# EAGLE library part MOLEX_DUAL_STACKED_VHDCI (library molex_vhdci)
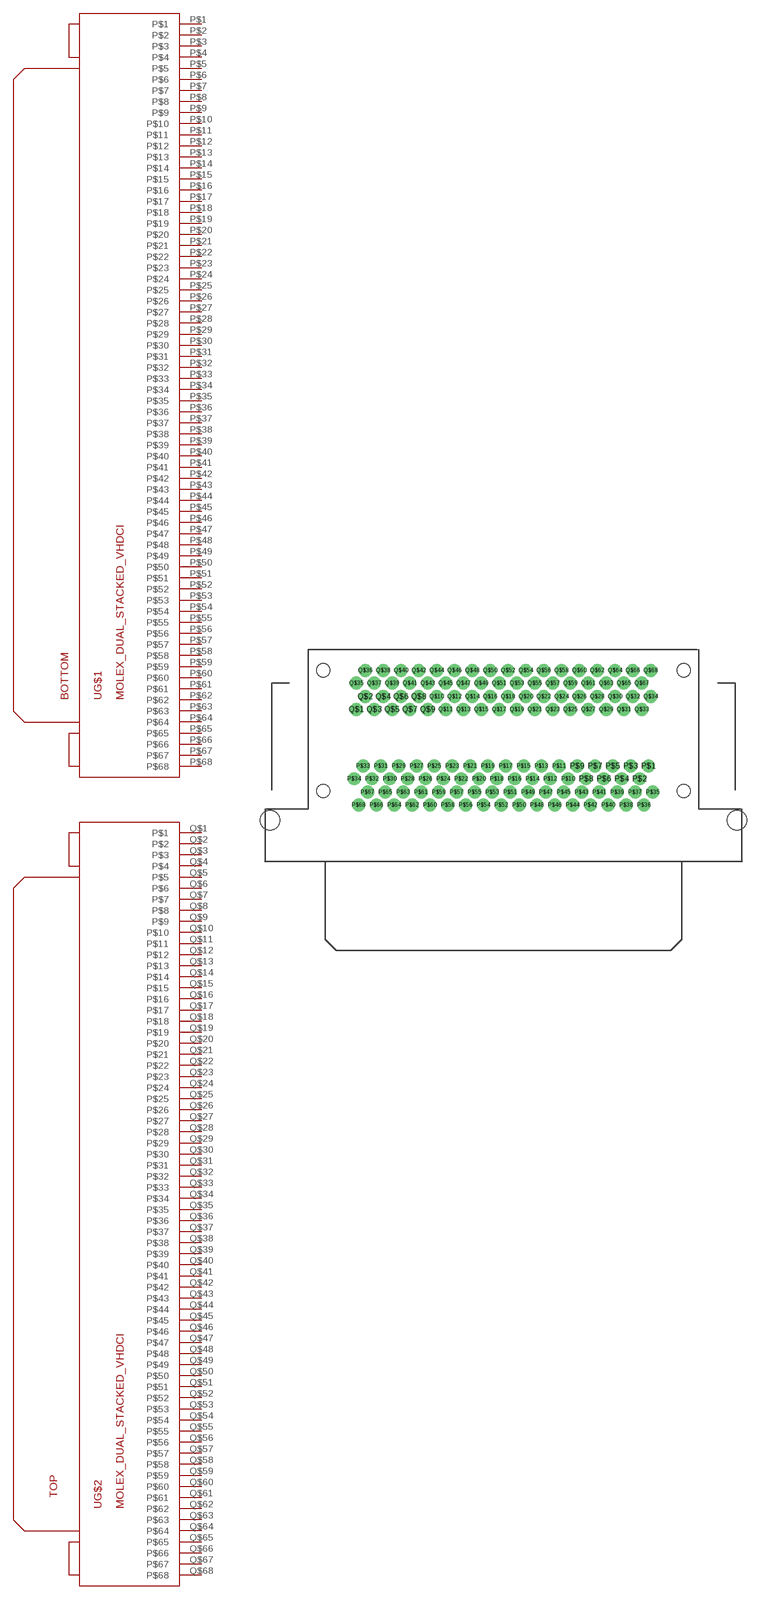
[diagram p0: symbol with the pads of MOLEX_743370911_SD_DUAL_STACKED_VHDCI; footprint MOLEX_743370911_SD_DUAL_STACKED_VHDCI]

Designator prefix -; gates G$1=MOLEX_DUAL_STACKED_VHDCI-BANK0 G$2=MOLEX_DUAL_STACKED_VHDCI-BANK1

## MOLEX_DUAL_STACKED_VHDCI  [MOLEX_743370911_SD_DUAL_STACKED_VHDCI]
P$1  G$1:P$1
P$2  G$1:P$2
P$3  G$1:P$3
P$4  G$1:P$4
P$5  G$1:P$5
P$6  G$1:P$6
P$7  G$1:P$7
P$8  G$1:P$8
P$9  G$1:P$9
P$10  G$1:P$10
P$11  G$1:P$11
P$12  G$1:P$12
P$13  G$1:P$13
P$14  G$1:P$14
P$15  G$1:P$15
P$16  G$1:P$16
P$17  G$1:P$17
P$18  G$1:P$18
P$19  G$1:P$19
P$20  G$1:P$20
P$21  G$1:P$21
P$22  G$1:P$22
P$23  G$1:P$23
P$24  G$1:P$24
P$25  G$1:P$25
P$26  G$1:P$26
P$27  G$1:P$27
P$28  G$1:P$28
P$29  G$1:P$29
P$30  G$1:P$30
P$31  G$1:P$31
P$32  G$1:P$32
P$33  G$1:P$33
P$34  G$1:P$34
P$35  G$1:P$35
P$36  G$1:P$36
P$37  G$1:P$37
P$38  G$1:P$38
P$39  G$1:P$39
P$40  G$1:P$40
P$41  G$1:P$41
P$42  G$1:P$42
P$43  G$1:P$43
P$44  G$1:P$44
P$45  G$1:P$45
P$46  G$1:P$46
P$47  G$1:P$47
P$48  G$1:P$48
P$49  G$1:P$49
P$50  G$1:P$50
P$51  G$1:P$51
P$52  G$1:P$52
P$53  G$1:P$53
P$54  G$1:P$54
P$55  G$1:P$55
P$56  G$1:P$56
P$57  G$1:P$57
P$58  G$1:P$58
P$59  G$1:P$59
P$60  G$1:P$60
P$61  G$1:P$61
P$62  G$1:P$62
P$63  G$1:P$63
P$64  G$1:P$64
P$65  G$1:P$65
P$66  G$1:P$66
P$67  G$1:P$67
P$68  G$1:P$68
Q$1  G$2:P$1
Q$2  G$2:P$2
Q$3  G$2:P$3
Q$4  G$2:P$4
Q$5  G$2:P$5
Q$6  G$2:P$6
Q$7  G$2:P$7
Q$8  G$2:P$8
Q$9  G$2:P$9
Q$10  G$2:P$10
Q$11  G$2:P$11
Q$12  G$2:P$12
Q$13  G$2:P$13
Q$14  G$2:P$14
Q$15  G$2:P$15
Q$16  G$2:P$16
Q$17  G$2:P$17
Q$18  G$2:P$18
Q$19  G$2:P$19
Q$20  G$2:P$20
Q$21  G$2:P$21
Q$22  G$2:P$22
Q$23  G$2:P$23
Q$24  G$2:P$24
Q$25  G$2:P$25
Q$26  G$2:P$26
Q$27  G$2:P$27
Q$28  G$2:P$28
Q$29  G$2:P$29
Q$30  G$2:P$30
Q$31  G$2:P$31
Q$32  G$2:P$32
Q$33  G$2:P$33
Q$34  G$2:P$34
Q$35  G$2:P$35
Q$36  G$2:P$36
Q$37  G$2:P$37
Q$38  G$2:P$38
Q$39  G$2:P$39
Q$40  G$2:P$40
Q$41  G$2:P$41
Q$42  G$2:P$42
Q$43  G$2:P$43
Q$44  G$2:P$44
Q$45  G$2:P$45
Q$46  G$2:P$46
Q$47  G$2:P$47
Q$48  G$2:P$48
Q$49  G$2:P$49
Q$50  G$2:P$50
Q$51  G$2:P$51
Q$52  G$2:P$52
Q$53  G$2:P$53
Q$54  G$2:P$54
Q$55  G$2:P$55
Q$56  G$2:P$56
Q$57  G$2:P$57
Q$58  G$2:P$58
Q$59  G$2:P$59
Q$60  G$2:P$60
Q$61  G$2:P$61
Q$62  G$2:P$62
Q$63  G$2:P$63
Q$64  G$2:P$64
Q$65  G$2:P$65
Q$66  G$2:P$66
Q$67  G$2:P$67
Q$68  G$2:P$68

## Footprint MOLEX_743370911_SD_DUAL_STACKED_VHDCI (pad centres in mm)
drill 0.65: P$1 13.005,8.55; P$2 12.205,7.4; P$3 11.405,8.55; P$4 10.605,7.4; P$5 9.805,8.55; P$6 9.005,7.4; P$7 8.205,8.55; P$8 7.405,7.4; P$9 6.605,8.55; P$10 5.805,7.4; P$11 5.005,8.55; P$12 4.205,7.4; P$13 3.405,8.55; P$14 2.605,7.4; P$15 1.805,8.55; P$16 1.005,7.4; P$17 0.205,8.55; P$18 -0.595,7.4; P$19 -1.395,8.55; P$20 -2.195,7.4; P$21 -2.995,8.55; P$22 -3.795,7.4; P$23 -4.595,8.55; P$24 -5.395,7.4; P$25 -6.195,8.55; P$26 -6.995,7.4; P$27 -7.795,8.55; P$28 -8.595,7.4; P$29 -9.395,8.55; P$30 -10.195,7.4; P$31 -10.995,8.55; P$32 -11.795,7.4; P$33 -12.595,8.55; P$34 -13.395,7.4; P$35 13.405,6.2; P$36 12.605,5.05; P$37 11.805,6.2; P$38 11.005,5.05; P$39 10.205,6.2; P$40 9.405,5.05; P$41 8.605,6.2; P$42 7.805,5.05; P$43 7.005,6.2; P$44 6.205,5.05; P$45 5.405,6.2; P$46 4.605,5.05; P$47 3.805,6.2; P$48 3.005,5.05; P$49 2.205,6.2; P$50 1.405,5.05; P$51 0.605,6.2; P$52 -0.195,5.05; P$53 -0.995,6.2; P$54 -1.795,5.05; P$55 -2.595,6.2; P$56 -3.395,5.05; P$57 -4.195,6.2; P$58 -4.995,5.05; P$59 -5.795,6.2; P$60 -6.595,5.05; P$61 -7.395,6.2; P$62 -8.195,5.05; P$63 -8.995,6.2; P$64 -9.795,5.05; P$65 -10.595,6.2; P$66 -11.395,5.05; P$67 -12.195,6.2; P$68 -12.995,5.05; Q$1 -13.195,13.63; Q$2 -12.395,14.78; Q$3 -11.595,13.63; Q$4 -10.795,14.78; Q$5 -9.995,13.63; Q$6 -9.195,14.78; Q$7 -8.395,13.63; Q$8 -7.595,14.78; Q$9 -6.795,13.63; Q$10 -5.995,14.78; Q$11 -5.195,13.63; Q$12 -4.395,14.78; Q$13 -3.595,13.63; Q$14 -2.795,14.78; Q$15 -1.995,13.63; Q$16 -1.195,14.78; Q$17 -0.395,13.63; Q$18 0.405,14.78; Q$19 1.205,13.63; Q$20 2.005,14.78; Q$21 2.805,13.63; Q$22 3.605,14.78; Q$23 4.405,13.63; Q$24 5.205,14.78; Q$25 6.005,13.63; Q$26 6.805,14.78; Q$27 7.605,13.63; Q$28 8.405,14.78; Q$29 9.205,13.63; Q$30 10.005,14.78; Q$31 10.805,13.63; Q$32 11.605,14.78; Q$33 12.405,13.63; Q$34 13.205,14.78; Q$35 -13.195,15.98; Q$36 -12.395,17.13; Q$37 -11.595,15.98; Q$38 -10.795,17.13; Q$39 -9.995,15.98; Q$40 -9.195,17.13; Q$41 -8.395,15.98; Q$42 -7.595,17.13; Q$43 -6.795,15.98; Q$44 -5.995,17.13; Q$45 -5.195,15.98; Q$46 -4.395,17.13; Q$47 -3.595,15.98; Q$48 -2.795,17.13; Q$49 -1.995,15.98; Q$50 -1.195,17.13; Q$51 -0.395,15.98; Q$52 0.405,17.13; Q$53 1.205,15.98; Q$54 2.005,17.13; Q$55 2.805,15.98; Q$56 3.605,17.13; Q$57 4.405,15.98; Q$58 5.205,17.13; Q$59 6.005,15.98; Q$60 6.805,17.13; Q$61 7.605,15.98; Q$62 8.405,17.13; Q$63 9.205,15.98; Q$64 10.005,17.13; Q$65 10.805,15.98; Q$66 11.605,17.13; Q$67 12.405,15.98; Q$68 13.205,17.13
hole 1.2 at -16.175,6.3
hole 1.2 at 16.175,6.3
hole 1.2 at -16.175,17.13
hole 1.2 at 16.175,17.13
hole 1.75 at -20.95,3.68
hole 1.75 at 20.95,3.68